# Altium footprint library 常用元件.PcbLib: 186 footprints (part 8 of 12)
Each footprint in its own frame and in the unit in brackets; x right, y up, seen from the top. Pads: shape width x height; smd on the part's side, far side on the other; paste and mask are expansions set on the pad; w line width, h text height; cw(c..) or ccw(c..) is an arc to the next point about the centre after c.
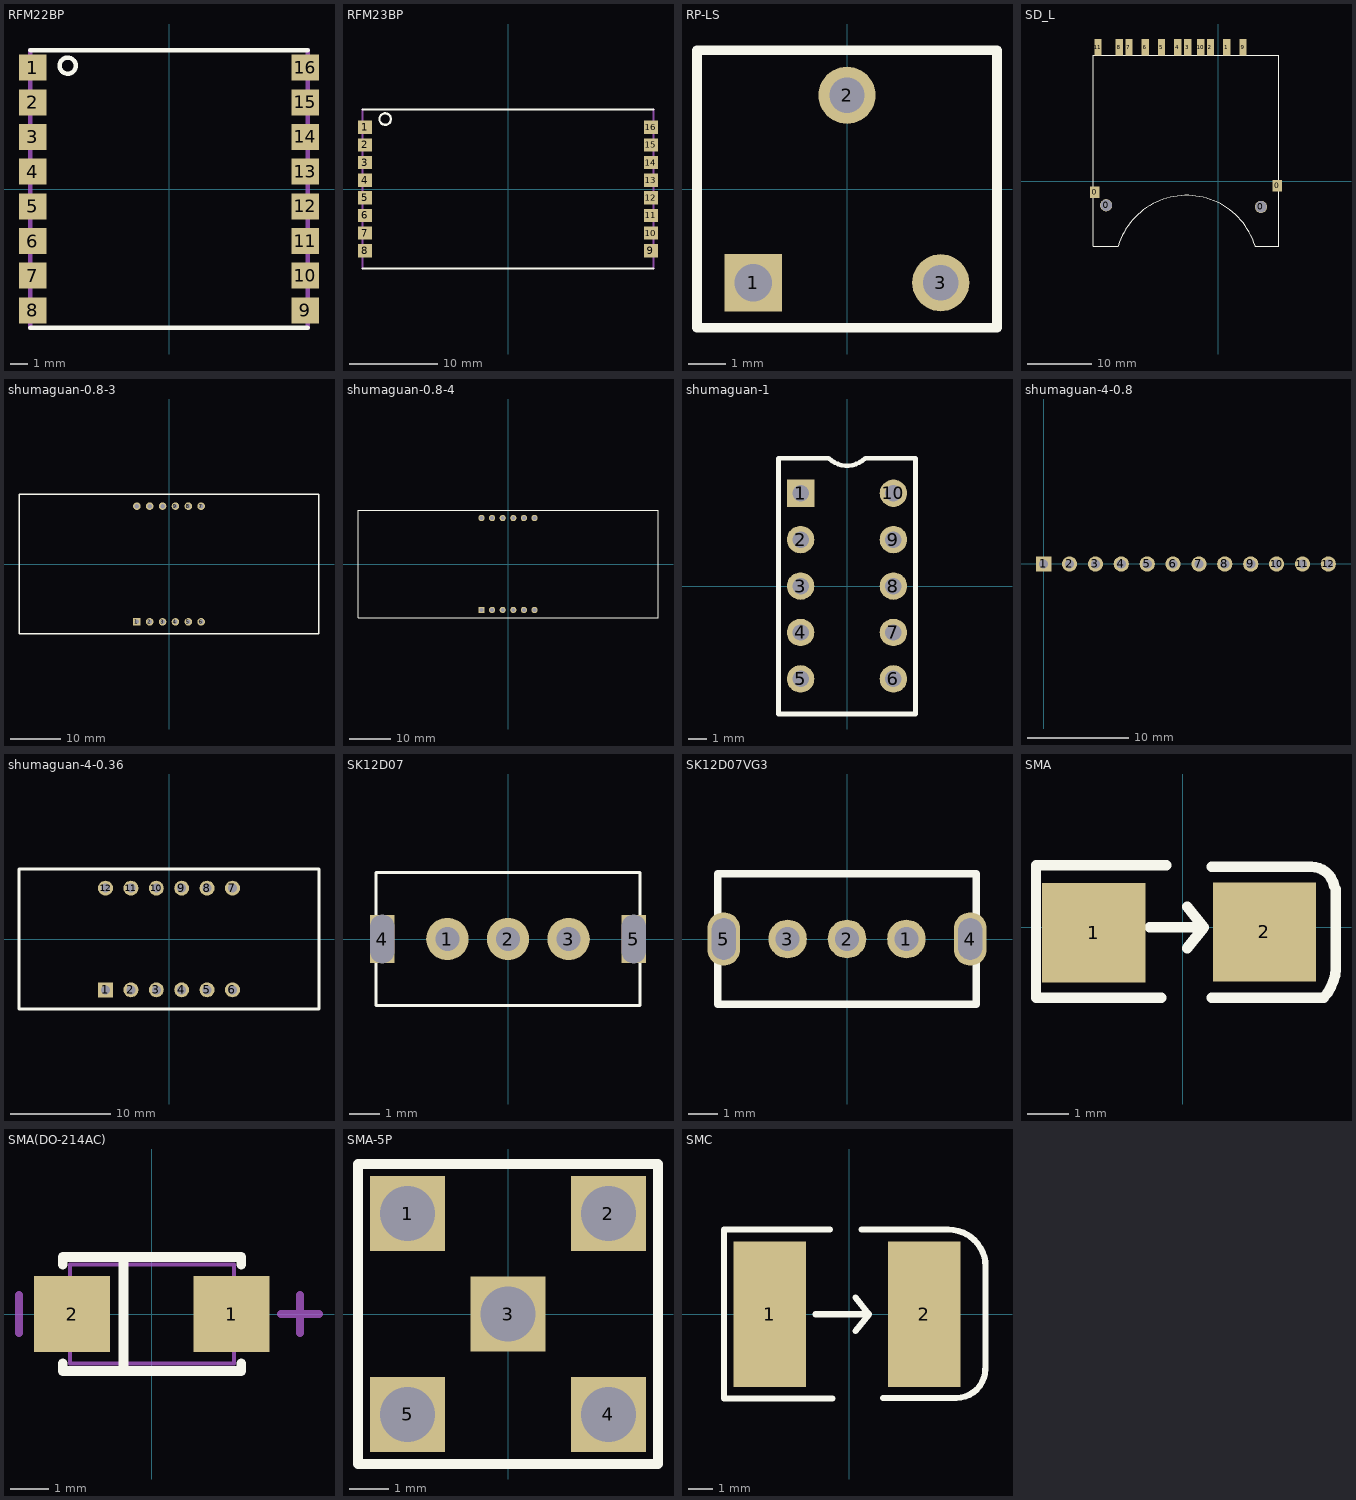
[diagram p7: the footprints below, top view; thin cyan lines are the x and y axes]

## RFM22BP [mm]
pads (16):
  rect 1.6x1.5 smd: 1(-7.85,7) 2(-7.85,5) 3(-7.85,3) 4(-7.85,1) 5(-7.85,-1) 6(-7.85,-3) 7(-7.85,-5) 8(-7.85,-7) 9(7.85,-7) 10(7.85,-5) 11(7.85,-3) 12(7.85,-1) 13(7.85,1) 14(7.85,3) 15(7.85,5) 16(7.85,7)
Top Overlay:
  circle w0.254: c-5.842,7.112 r0.466
  lines w0.254: -8,-8 8,-8 ; -8,8 8,8
Mechanical 15:
  lines w0.254: -8,-8 -8,8 ; 8,-8 8,8

## RFM23BP [mm] "1W 433MHz数传"
pads (16):
  rect 1.6x1.5 smd: 1(-16.198,7) 2(-16.198,5) 3(-16.198,3) 4(-16.198,1) 5(-16.198,-1) 6(-16.198,-3) 7(-16.198,-5) 8(-16.198,-7) 9(16.198,-7) 10(16.198,-5) 11(16.198,-3) 12(16.198,-1) 13(16.198,1) 14(16.198,3) 15(16.198,5) 16(16.198,7)
Top Overlay:
  circle w0.254: c-13.919,7.925 r0.653
  lines w0.254: -16.5,-9 16.5,-9 ; -16.5,9 16.5,9
Mechanical 15:
  lines w0.254: -16.5,-9 -16.5,9 ; 16.5,-9 16.5,9

## RP-LS [mil] "立式滑动变阻器"
pads (3):
  rect 60x60 hole 39.37: 1(-98.43,-98.43)
  round 60 hole 37: 2(0,98.43) 3(98.43,-98.43)
Top Overlay:
  lines w10: -157.48,-145.67 -157.48,145.67 157.48,145.67 157.48,-145.67 -157.48,-145.67

## SD_L [mil]
pads (15):
  rect 60x70 smd: 0(-757.31,-67.28) 0(362.69,-27.28)
  round 75 hole 70: 0(-687.31,-147.28) 0(262.69,-157.28)
  rect 45x100 smd: 1(52.69,822.72) 2(-47.31,822.72) 3(-187.31,822.72) 4(-247.31,822.72) 5(-347.31,822.72) 6(-447.31,822.72) 7(-547.31,822.72) 8(-607.31,822.72) 9(152.69,822.72) 10(-107.31,822.72) 11(-737.31,822.72)
Top Overlay:
  lines w5: -613.4,-397.28 -767.31,-397.28 -767.31,772.72 372.69,772.72 372.69,-397.28 226.76,-397.28 226.76,-396.01
  lines w6.69: -613.4,-395.37 cw(c-193.42,-527.52) 226.76,-396.01

## shumaguan-0.8-3 [mm] "0.8英寸3段数码管"
pads (12):
  rect 1.5x1.5 hole 0.9: 1(-6.35,-11.43)
  round 1.5 hole 0.9: 2(-3.81,-11.43) 3(-1.27,-11.43) 4(1.27,-11.43) 5(3.81,-11.43) 6(6.35,-11.43) 7(6.35,11.43) 8(3.81,11.43) 9(1.27,11.43) 10(-1.27,11.43) 11(-3.81,11.43) 12(-6.35,11.43)
Top Overlay:
  lines w0.254: -29.65,-13.75 29.65,-13.75 29.65,13.75 -29.65,13.75 -29.65,-13.75

## shumaguan-0.8-4 [mm] "0.8英寸四段数码管"
pads (12):
  rect 1.5x1.5 hole 0.9: 1(-6.35,-11)
  round 1.5 hole 0.9: 2(-3.81,-11) 3(-1.27,-11) 4(1.27,-11) 5(3.81,-11) 6(6.35,-11) 7(6.35,11) 8(3.81,11) 9(1.27,11) 10(-1.27,11) 11(-3.81,11) 12(-6.35,11)
Top Overlay:
  lines w0.254: -35.9,-12.9 -35.9,12.9 35.9,12.9 35.9,-12.9 -35.9,-12.9

## shumaguan-1 [mm] "0.36英寸"
pads (10):
  rect 1.5x1.5 hole 0.9: 1(-2.54,5.08)
  round 1.5 hole 0.9: 2(-2.54,2.54) 3(-2.54,0) 4(-2.54,-2.54) 5(-2.54,-5.08) 6(2.54,-5.08) 7(2.54,-2.54) 8(2.54,0) 9(2.54,2.54) 10(2.54,5.08)
Top Overlay:
  lines w0.254: -3.75,-7 -3.75,7 -1,7 ccw(c0,8) 1,7 3.75,7 3.75,-7 -3.75,-7

## shumaguan-3 [mm]

## shumaguan-4-0.8 [mm]
pads (12):
  rect 1.5x1.5 hole 0.9: 1(0,0)
  round 1.5 hole 0.9: 2(2.54,0) 3(5.08,0) 4(7.62,0) 5(10.16,0) 6(12.7,0) 7(15.24,0) 8(17.78,0) 9(20.32,0) 10(22.86,0) 11(25.4,0) 12(27.94,0)

## shumaguan-4-0.36 [mm]
pads (12):
  rect 1.5x1.5 hole 0.9: 1(-6.35,-5.08)
  round 1.5 hole 0.9: 2(-3.81,-5.08) 3(-1.27,-5.08) 4(1.27,-5.08) 5(3.81,-5.08) 6(6.35,-5.08) 7(6.35,5.08) 8(3.81,5.08) 9(1.27,5.08) 10(-1.27,5.08) 11(-3.81,5.08) 12(-6.35,5.08)
Top Overlay:
  lines w0.254: -15,-7 -15,7 -14,7 14,7 15,7 15,-7 14,-7 -14,-7 -15,-7

## SK12D07 [mm] "拨动开关"
pads (5):
  round 1.4 hole 0.8: 1(-2,0) 2(0,0) 3(2,0)
  rect 0.8x1.6 hole 0.8 slot 1.6 at 90 deg: 4(-4.15,0) 5(4.15,0)
Top Overlay:
  lines w0.1: -4.35,-2.2 4.35,-2.2 4.35,2.2 -4.35,2.2 -4.35,-2.2

## SK12D07VG3 [mm]
pads (5):
  round 1.3 hole 0.8: 1(2,0) 2(0,0) 3(-2,0)
  oval 1.1x1.8 hole 0.8 slot 1.4 at 90 deg: 4(4.15,0) 5(-4.15,0)
Top Overlay:
  lines w0.254: -4.35,-2.2 -4.35,2.2 4.35,2.2 4.35,-2.2 -4.35,-2.2

## SMA [mm]
pads (2):
  rect 2.5x2.4 smd: 1(-2.159,-0.127) 2(1.971,-0.108)
Top Overlay:
  lines w0.254: -3.556,1.5 -3.556,-1.7 -1.954,-1.7 -0.524,-1.7 ; -3.5,1.5 -0.4,1.5 ; -0.8,0 0.5,0 ; 0.1,-0.5 0.5,0 ; 0.1,0.5 0.5,0 ; 0.7,-1.7 3.4,-1.7 ccw(c2.572,-0.931) 3.7,-1 3.7,0.917 ; 0.7,1.47 1.3,1.47 2.499,1.47 3.098,1.47 cw(c3.09,0.89) 3.661,0.993
3D body: height -0.35, standoff -2.65, extent -2.626,-1.526 2.574,1.374

## SMA(DO-214AC) [mm]
pads (2):
  rect 2x2 smd: 1(2.1,0) 2(-2.1,0)
Top Overlay:
  lines w0.254: -2.35,-1.3 -2.35,-1.5 2.35,-1.5 2.35,-1.3 ; -2.35,1.3 -2.35,1.5 2.35,1.5 2.35,1.3 ; -0.75,-1.5 -0.75,1.5
Mechanical 13:
  lines w0.1: -2.16,-1.3 -2.16,1.3 2.16,1.3 2.16,-1.3 -2.16,-1.3
Mechanical 15:
  lines w0.203: -3.5,-0.5 -3.5,0.5 ; 3.4,0 4.4,0 ; 3.9,-0.5 3.9,0.5

## SMA-5P [mm] "天线座子"
pads (5):
  rect 1.9x1.9 hole 1.4 square: 1(-2.55,2.55) 2(2.55,2.55) 3(0,0) 4(2.55,-2.55) 5(-2.55,-2.55)
Top Overlay:
  lines w0.254: -3.81,-3.81 3.81,-3.81 3.81,3.81 -3.81,3.81 -3.81,-3.81

## SMC [mm] "SS54"
pads (2):
  rect 3x6 smd: 1(-3.3,0) 2(3.1,0)
Top Overlay:
  lines w0.254: -1.397,0 0.808,0 ; -0.8,3.505 -5.182,3.505 -5.182,0.65 -5.182,-3.48 -3.545,-3.48 -2.155,-3.48 -0.7,-3.48 ; 0.252,-0.694 0.808,0 ; 0.254,0.693 0.808,0 ; 0.5,3.5 1.607,3.5 2.622,3.5 3.43,3.5 4.101,3.5 cw(c4.101,1.973) 5.629,1.973 5.629,-2.245 ; 1.396,-3.456 4.418,-3.456 ccw(c4.418,-2.261) 5.613,-2.261